# Altium footprint library PASSIVE_COMPONENTS.PcbLib: 5 footprints
Each footprint in its own frame and in the unit in brackets; x right, y up, seen from the top. Pads: shape width x height; smd on the part's side, far side on the other; paste and mask are expansions set on the pad; w line width, h text height; cw(c..) or ccw(c..) is an arc to the next point about the centre after c.
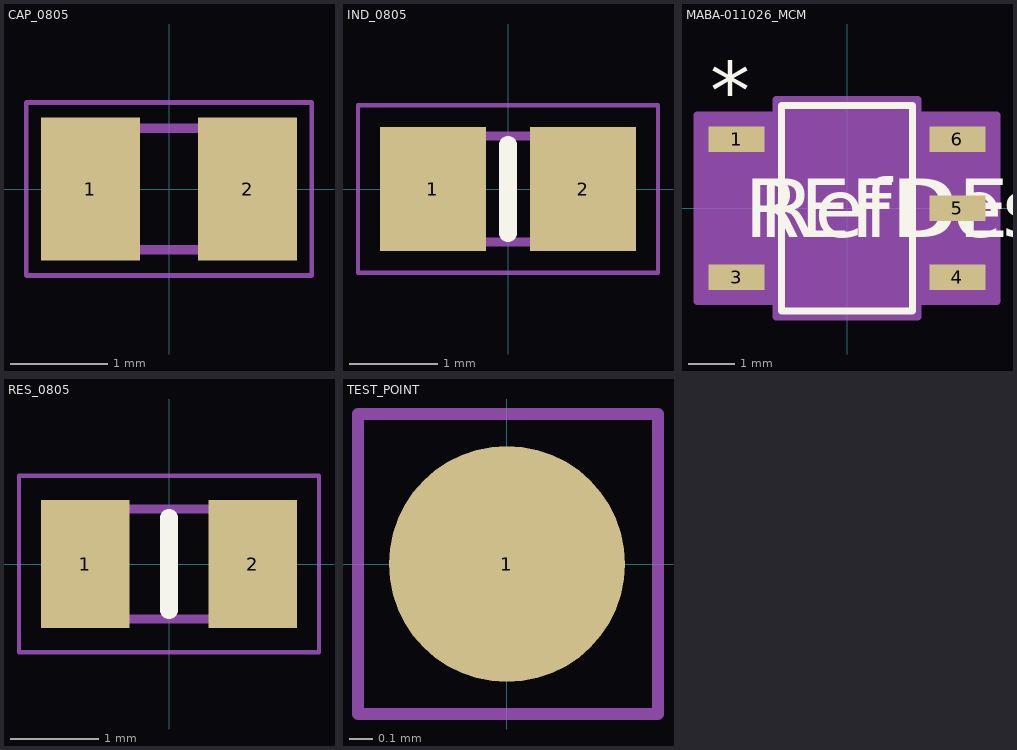
[diagram p0: the footprints below, top view; thin cyan lines are the x and y axes]

## CAP_0805 [mm] "Capacitor SMD 0805"
pads (2):
  rect 1.02x1.47 smd: 1(-0.81,0) 2(0.81,0)
Mechanical 13:
  lines w0.1: -1.005,-0.625 1.005,-0.625 1.005,0.625 -1.005,0.625 -1.005,-0.625
Mechanical 15:
  lines w0.05: -1.47,-0.89 1.47,-0.89 1.47,0.89 -1.47,0.89 -1.47,-0.89
3D body "08055A471KAT2A.stp": height 0.94, standoff 0, extent -1.005,-0.625 1.005,0.625

## IND_0805 [mm] "Inductor SMD 0805"
pads (2):
  rect 1.2x1.4 smd: 1(-0.85,0) 2(0.85,0)
Top Overlay:
  lines w0.2: 0,-0.5 0,0.5
Mechanical 13:
  lines w0.1: -1,-0.6 -1,0.6 1,0.6 1,-0.6 -1,-0.6
Mechanical 15:
  lines w0.05: -1.7,-0.95 -1.7,0.95 1.7,0.95 1.7,-0.95 -1.7,-0.95
3D body "74479775147.stp": height 1.03, standoff 0.03, extent -1,-0.6 1,0.6

## MABA-011026_MCM [mil]
pads (5):
  rect 48x22 smd paste+0 mask+0: 1(-94.5,59.06) 3(-94.5,-59.06) 4(94.5,-59.06) 5(94.5,0) 6(94.5,59.06)
Top Overlay:
  lines w6: -56,-88 56,-88 56,88 -56,88 -56,-88
  text "REFDES" at -87.5,-25 h50
  text "*" at -117,76.06 h50
  text "RefDes" at -75,-25 h50
Mechanical 13:
  lines w0: -12,83 ccw(c0,83) 12,83
  lines w1: -104.5,-69.06 -104.5,-49.06 -51,-49.06 -51,-69.06 -104.5,-69.06 ; -104.5,49.06 -104.5,69.06 -51,69.06 -51,49.06 -104.5,49.06 ; -51,-83 51,-83 51,83 -51,83 -51,-83 ; 51,-69.06 51,-49.06 104.5,-49.06 104.5,-69.06 51,-69.06 ; 51,-10 51,10 104.5,10 104.5,-10 51,-10 ; 51,49.06 51,69.06 104.5,69.06 104.5,49.06 51,49.06
  text "*" at -48.5,30 h50
  text "RefDes2" at -87.5,-25 h50
Mechanical 15:
  region: -61,-80.06 -128.5,-80.06 -128.5,80.06 -61,80.06 -61,93 61,93 61,80.06 128.5,80.06 128.5,-80.06 61,-80.06 61,-93 -61,-93
  lines w6: -128.5,-80.06 -128.5,80.06 -61,80.06 -61,93 61,93 61,80.06 128.5,80.06 128.5,-80.06 61,-80.06 61,-93 -61,-93 -61,-80.06 -128.5,-80.06
3D body "MABA-011026_MCM.step": height 139.09, standoff 0, extent -104.49,-82.99 104.49,82.99

## RES_0805 [mm] "Resistor SMD 0805"
pads (2):
  rect 1x1.45 smd: 1(-0.95,0) 2(0.95,0)
Top Overlay:
  lines w0.2: 0,-0.525 0,0.525
Mechanical 13:
  lines w0.1: -1,-0.625 1,-0.625 1,0.625 -1,0.625 -1,-0.625
Mechanical 15:
  lines w0.05: -1.7,-1 1.7,-1 1.7,1 -1.7,1 -1.7,-1
3D body "CPF0805B102RE1.stp": height 0.46, standoff 0, extent -0.775,-0.4 0.775,0.4

## TEST_POINT [mm]
pads (1):
  round 1 smd paste-1: 1(0,0)
Top Designator:
  text ".Designator" at -0.176,-1.194 h0.8
Top Assembly:
  lines w0.05: -0.631,-0.635 0.639,-0.635 0.639,0.635 -0.631,0.635 -0.631,-0.635